# Altium footprint library ALTAIR_PD_Headers.PcbLib: 8 footprints
Each footprint in its own frame and in the unit in brackets; x right, y up, seen from the top. Pads: shape width x height; smd on the part's side, far side on the other; paste and mask are expansions set on the pad; w line width, h text height; cw(c..) or ccw(c..) is an arc to the next point about the centre after c.
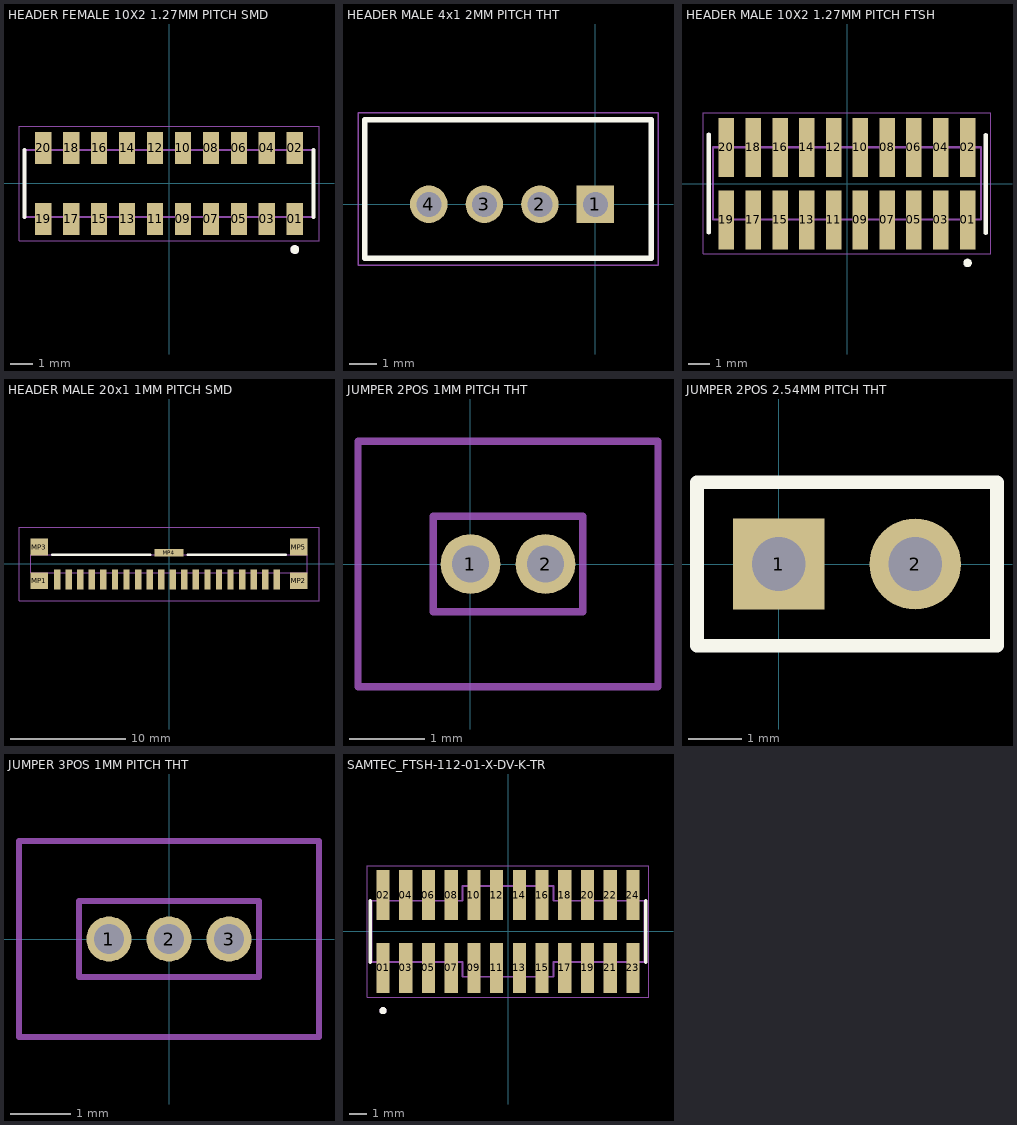
[diagram p0: the footprints below, top view; thin cyan lines are the x and y axes]

## HEADER FEMALE 10X2 1.27MM PITCH SMD [mil]
height 93.31
pads (20):
  rect 29x58 smd: 01(225,-63.5) 02(225,63.5) 03(175,-63.5) 04(175,63.5) 05(125,-63.5) 06(125,63.5) 07(75,-63.5) 08(75,63.5) 09(25,-63.5) 10(25,63.5) 11(-25,-63.5) 12(-25,63.5) 13(-75,-63.5) 14(-75,63.5) 15(-125,-63.5) 16(-125,63.5) 17(-175,-63.5) 18(-175,63.5) 19(-225,-63.5) 20(-225,63.5)
Top Overlay:
  circle w7.87: c225,-118.11 r3.94
  lines w7.87: -258.5,-60 -258.5,60 ; 258.5,-60 258.5,60
Mechanical 13:
  circle w7.87: c225,-118.11 r3.94
  lines w3.94: -258.5,-60 258.5,-60 258.5,60 -258.5,60 -258.5,-60
Mechanical 15:
  lines w1.97: -268.34,-102.34 268.34,-102.34 268.34,102.34 -268.34,102.34 -268.34,-102.34
3D body "CLP-110-02-F-D-K-TR.stp": height 93.94, standoff -1.06, extent -258.5,-85 258.5,85

## HEADER MALE 4x1 2MM PITCH THT [mm]
pads (4):
  rect 1.35x1.35 hole 0.9: 1(0,0)
  round 1.35 hole 0.9: 2(-2,0) 3(-4,0) 4(-6,0)
Top Overlay:
  lines w0.2: 2,-1.95 -8.3,-1.95 -8.3,3.05 2,3.05 2,-1.905
Mechanical 13:
  lines w0.1: -8.3,-1.95 -8.3,3.05 2,3.05 2,-1.95 -8.3,-1.95
Mechanical 15:
  lines w0.05: -8.55,-2.2 -8.55,3.3 2.25,3.3 2.25,-2.2 -8.55,-2.2
3D body "440054-4.stp": height 6.05, standoff -3.4, extent -7.95,-1.6 2.05,3.1

## HEADER MALE 10X2 1.27MM PITCH FTSH [mil]
pads (20):
  rect 29x110 smd: 01(225,-67.48) 02(225,67.5) 03(175,-67.48) 04(175,67.5) 05(125,-67.48) 06(125,67.5) 07(75,-67.48) 08(75,67.5) 09(25,-67.48) 10(25,67.5) 11(-25,-67.48) 12(-25,67.5) 13(-75,-67.48) 14(-75,67.5) 15(-125,-67.48) 16(-125,67.5) 17(-175,-67.48) 18(-175,67.5) 19(-225,-67.48) 20(-225,67.5)
Top Overlay:
  circle w7.87: c225,-148 r3.94
  lines w7.87: -258,-91 -258,92 ; 259,-92 259,91
Mechanical 1:
  lines w3.94: -250,-67 250,-67 250,68 -250,68 -250,-67
Mechanical 15:
  lines w1.97: -268.34,-131 268.34,-131 268.34,132 -268.34,132 -268.34,-131
3D body "FTSH-110-03-L-DV--3DModel-STEP-56544.STEP": height 179.75, standoff -0.25, extent -250,-115 250,115

## HEADER MALE 20x1 1MM PITCH SMD [mm]
pads (25):
  rect 0.55x1.7 smd: 1(-9.675,-1.35) 2(-8.675,-1.35) 3(-7.675,-1.35) 4(-6.675,-1.35) 5(-5.675,-1.35) 6(-4.675,-1.35) 7(-3.675,-1.35) 8(-2.675,-1.35) 9(-1.675,-1.35) 10(-0.675,-1.35) 11(0.325,-1.35) 12(1.325,-1.35) 13(2.325,-1.35) 14(3.325,-1.35) 15(4.325,-1.35) 16(5.325,-1.35) 17(6.325,-1.35) 18(7.325,-1.35) 19(8.325,-1.35) 20(9.325,-1.35)
  rect 1.5x1.45 smd: MP1(-11.225,-1.455) MP2(11.225,-1.455) MP3(-11.225,1.455) MP5(11.225,1.455)
  rect 2.5x0.65 smd: MP4(0,0.975)
Top Overlay:
  lines w0.2: -10.125,0.78 -1.6,0.78 ; 1.6,0.78 10.125,0.78
Mechanical 13:
  lines w0.1: -11.95,-0.78 -11.95,0.78 11.95,0.78 11.95,-0.78 -11.95,-0.78
Mechanical 15:
  lines w0.1: -12.975,-3.2 -12.975,3.18 12.975,3.18 12.975,-3.2 -12.975,-3.2
3D body "DF19-20P-1V_52_.stp": height 5.22, standoff 0, extent -11.95,-1.91 11.95,1.89

## JUMPER 2POS 1MM PITCH THT [mm] "GCT BC020-02-A-0200-0300-L-G"
pads (2):
  round 0.8 hole 0.5: 1(0,0) 2(1,0)
Mechanical 13:
  lines w0.1: -0.5,-0.635 -0.5,0.635 1.5,0.635 1.5,-0.635 -0.5,-0.635
Mechanical 15:
  lines w0.1: -1.5,-1.635 -1.5,1.635 2.5,1.635 2.5,-1.635 -1.5,-1.635
3D body "BC020-02-A-0200-0300-L-G.stp": height 3, standoff -3, extent -0.5,-0.635 1.5,0.635

## JUMPER 2POS 2.54MM PITCH THT [mm]
pads (2):
  rect 1.7x1.7 hole 1: 1(0,0)
  round 1.7 hole 1: 2(2.54,0)
Top Overlay:
  lines w0.254: -1.524,-1.524 -1.524,1.524 4.064,1.524 4.064,-1.524 -1.524,-1.524
3D body "TSW-101-23-G-D.stp": height 8.38, standoff -2.92, extent -1.27,-1.27 3.81,1.27

## JUMPER 3POS 1MM PITCH THT [mm] "GCT BC020-03-A-0200-0300-L-G"
pads (3):
  round 0.75 hole 0.5: 1(-1,0) 2(0,0) 3(1,0)
Mechanical 13:
  lines w0.1: -1.5,-0.635 -1.5,0.635 1.5,0.635 1.5,-0.635 -1.5,-0.635
Mechanical 15:
  lines w0.1: -2.5,-1.635 -2.5,1.635 2.5,1.635 2.5,-1.635 -2.5,-1.635
3D body "BC020-03-A-0200-0300-L-G.STEP": height 4.3, standoff -2.1, extent -1.5,-0.635 1.5,0.635

## SAMTEC_FTSH-112-01-X-DV-K-TR [mil]
pads (24):
  rect 29x110 smd paste+0 mask+4.02: 01(-275,-80) 02(-275,80) 03(-225,-80) 04(-225,80) 05(-175,-80) 06(-175,80) 07(-125,-80) 08(-125,80) 09(-75,-80) 10(-75,80) 11(-25,-80) 12(-25,80) 13(25,-80) 14(25,80) 15(75,-80) 16(75,80) 17(125,-80) 18(125,80) 19(175,-80) 20(175,80) 21(225,-80) 22(225,80) 23(275,-80) 24(275,80)
Top Overlay:
  circle w7.87: c-275,-174.37 r3.94
  lines w7.87: -303.15,-67.5 -303.15,67.5 ; 303.15,-67.5 303.15,67.5
Mechanical 13:
  circle w7.87: c-275,-174.37 r3.94
  lines w3.94: -300,-67.5 -100,-67.5 -100,-100 100,-100 100,-67.5 300,-67.5 300,67.5 100,67.5 100,100 -100,100 -100,67.5 -300,67.5 -300,-67.5
Mechanical 15:
  lines w1.97: -309.84,-144.84 -309.84,144.84 309.84,144.84 309.84,-144.84 -309.84,-144.84
3D body "FTSH-112-01-L-DV-K.stp": height 241.5, standoff 0.5, extent -300,-115 300,115